# EAGLE library part LMV324 (library IC)
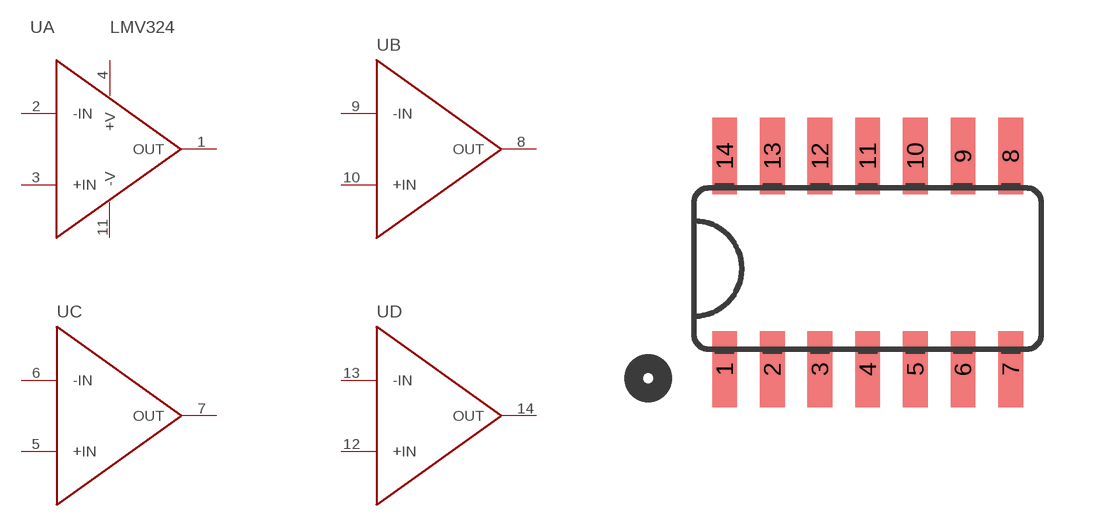
[diagram p66: symbol with the pads of SO014; footprint SO014]

Designator prefix U; gates A=LMV324 C=LMV324_2 B=LMV324_2 D=LMV324_2

## LMV324  [SO014]
1  A:OUT  out
2  A:-IN  in
3  A:+IN  in
4  A:+V  pwr
5  C:+IN  pwr
6  C:-IN  pwr
7  C:OUT  pwr
8  B:OUT  pwr
9  B:-IN  pwr
10  B:+IN  pwr
11  A:-V  pwr
12  D:+IN  pwr
13  D:-IN  pwr
14  D:OUT  pwr

## Footprint SO014 (pad centres in mm)
smd 0.66 x 2.032: 1 -3.175,-2.68; 2 -1.905,-2.68; 3 -0.635,-2.68; 4 0.635,-2.68; 5 1.905,-2.68; 6 3.175,-2.68; 7 4.445,-2.68; 8 4.445,2.997; 9 3.175,2.997; 10 1.905,2.997; 11 0.635,2.997; 12 -0.635,2.997; 13 -1.905,2.997; 14 -3.175,2.997